# EAGLE library part 750813002 (library wurth_electronics_midcom_inc_v2-1)
Package Style: EE13/7/6 Mounting: THT Pins: 8 pins Bobbin: 070-5449 Best pinouts for production vary per application. Please contact Wurth Electronics Midcom, Inc. for assistance with your custom design. Website: Wurth Electronics Midcom <http://www.we-online.com/midcom> Contact us Wurth Electronics Midcom, Inc. 121 Airport Dr. Watertown, SD 57201 Phone: (605) 886-4385 Fax: (605) 886-4486 E-Mail: midcom@we-online.com
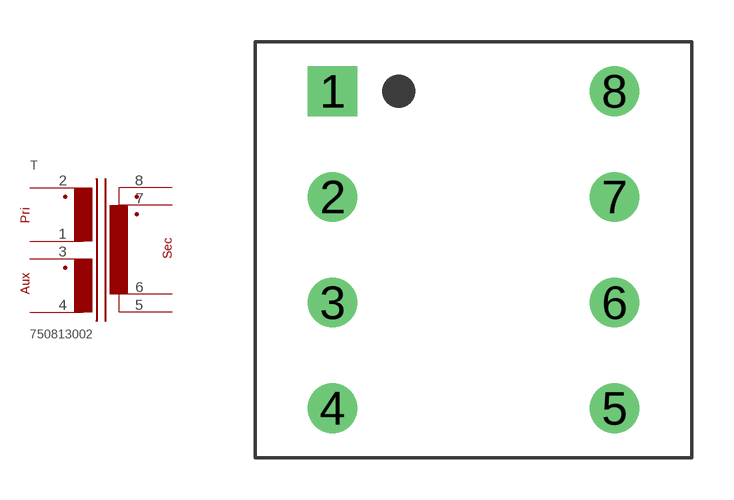
[diagram p333: symbol with the pads of EE13/7/6_THT_H_8PIN_(5449); footprint EE13/7/6_THT_H_8PIN_(5449)]

Designator prefix T

## 750813002  [EE13/7/6_THT_H_8PIN_(5449)]
1  1  pas
2  2  pas
3  3  pas
4  4  pas
5  5  pas
6  6  pas
7  7  pas
8  8  pas

## Footprint EE13/7/6_THT_H_8PIN_(5449) (pad centres in mm)
Package Style: EE13/7/6 Mounting: THT Pins: 8 Bobbin: 070-5449
drill 1.194 square: 1 -5.08,5.715
drill 1.194: 2 -5.08,1.905; 3 -5.08,-1.905; 4 -5.08,-5.715; 5 5.08,-5.715; 6 5.08,-1.905; 7 5.08,1.905; 8 5.08,5.715